# EAGLE library part A-HDS-15-PP/Z-UNC3 (library con-subd)
CONN D-SUB HD PLUG 15P VERT SLDR
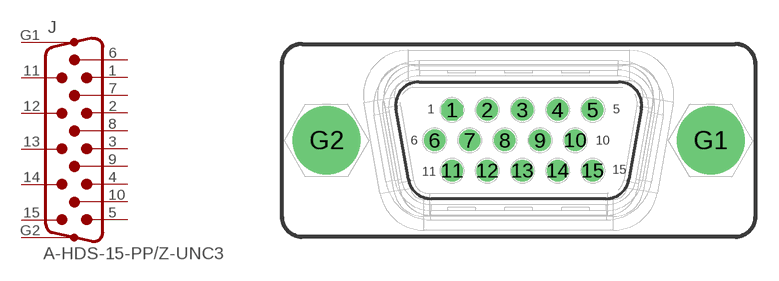
[diagram p104: symbol with the pads of A-HDS-15-PP/Z-UNC3; footprint A-HDS-15-PP/Z-UNC3]

Designator prefix J

## A-HDS-15-PP/Z-UNC3  [A-HDS-15-PP/Z-UNC3]
1  1  pas
2  2  pas
3  3  pas
4  4  pas
5  5  pas
6  6  pas
7  7  pas
8  8  pas
9  9  pas
10  10  pas
11  11  pas
12  12  pas
13  13  pas
14  14  pas
15  15  pas
G1  G1  pas
G2  G2  pas

## Footprint A-HDS-15-PP/Z-UNC3 (pad centres in mm)
drill 0.9 octagon: 1 -4.329,1.98
drill 0.9: 2 -2.043,1.98; 3 0.243,1.98; 4 2.529,1.98; 5 4.815,1.98; 6 -5.472,0; 7 -3.186,0; 8 -0.9,0; 9 1.386,0; 10 3.672,0; 11 -4.329,-1.98; 12 -2.043,-1.98; 13 0.243,-1.98; 14 2.529,-1.98; 15 4.815,-1.98
drill 3.1 pad 4.445: G1 12.497,0; G2 -12.497,0